# EAGLE library part MB1-140-CARD (library samtec)
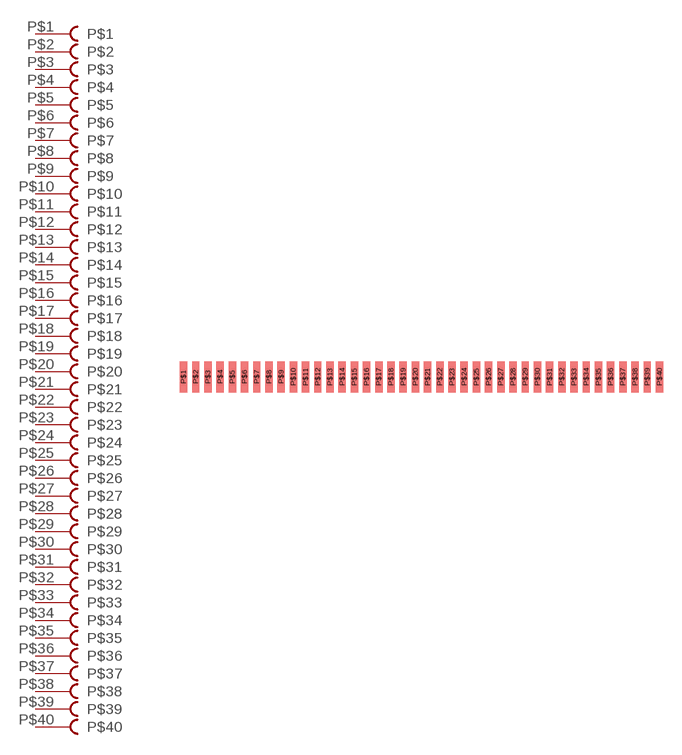
[diagram p1: symbol with the pads of MB1-140-CARD; footprint MB1-140-CARD]

Designator prefix -

## MB1-140-CARD  [MB1-140-CARD]
P$1  P$1
P$2  P$2
P$3  P$3
P$4  P$4
P$5  P$5
P$6  P$6
P$7  P$7
P$8  P$8
P$9  P$9
P$10  P$10
P$11  P$11
P$12  P$12
P$13  P$13
P$14  P$14
P$15  P$15
P$16  P$16
P$17  P$17
P$18  P$18
P$19  P$19
P$20  P$20
P$21  P$21
P$22  P$22
P$23  P$23
P$24  P$24
P$25  P$25
P$26  P$26
P$27  P$27
P$28  P$28
P$29  P$29
P$30  P$30
P$31  P$31
P$32  P$32
P$33  P$33
P$34  P$34
P$35  P$35
P$36  P$36
P$37  P$37
P$38  P$38
P$39  P$39
P$40  P$40

## Footprint MB1-140-CARD (pad centres in mm)
smd 0.61 x 2.54: P$1 -19.5,-0.73; P$2 -18.5,-0.73; P$3 -17.5,-0.73; P$4 -16.5,-0.73; P$5 -15.5,-0.73; P$6 -14.5,-0.73; P$7 -13.5,-0.73; P$8 -12.5,-0.73; P$9 -11.5,-0.73; P$10 -10.5,-0.73; P$11 -9.5,-0.73; P$12 -8.5,-0.73; P$13 -7.5,-0.73; P$14 -6.5,-0.73; P$15 -5.5,-0.73; P$16 -4.5,-0.73; P$17 -3.5,-0.73; P$18 -2.5,-0.73; P$19 -1.5,-0.73; P$20 -0.5,-0.73; P$21 0.5,-0.73; P$22 1.5,-0.73; P$23 2.5,-0.73; P$24 3.5,-0.73; P$25 4.5,-0.73; P$26 5.5,-0.73; P$27 6.5,-0.73; P$28 7.5,-0.73; P$29 8.5,-0.73; P$30 9.5,-0.73; P$31 10.5,-0.73; P$32 11.5,-0.73; P$33 12.5,-0.73; P$34 13.5,-0.73; P$35 14.5,-0.73; P$36 15.5,-0.73; P$37 16.5,-0.73; P$38 17.5,-0.73; P$39 18.5,-0.73; P$40 19.5,-0.73